# Altium footprint library BFCN-5540&plus_.PcbLib: 1 footprints
Each footprint in its own frame and in the unit in brackets; x right, y up, seen from the top. Pads: shape width x height; smd on the part's side, far side on the other; paste and mask are expansions set on the pad; w line width, h text height; cw(c..) or ccw(c..) is an arc to the next point about the centre after c.
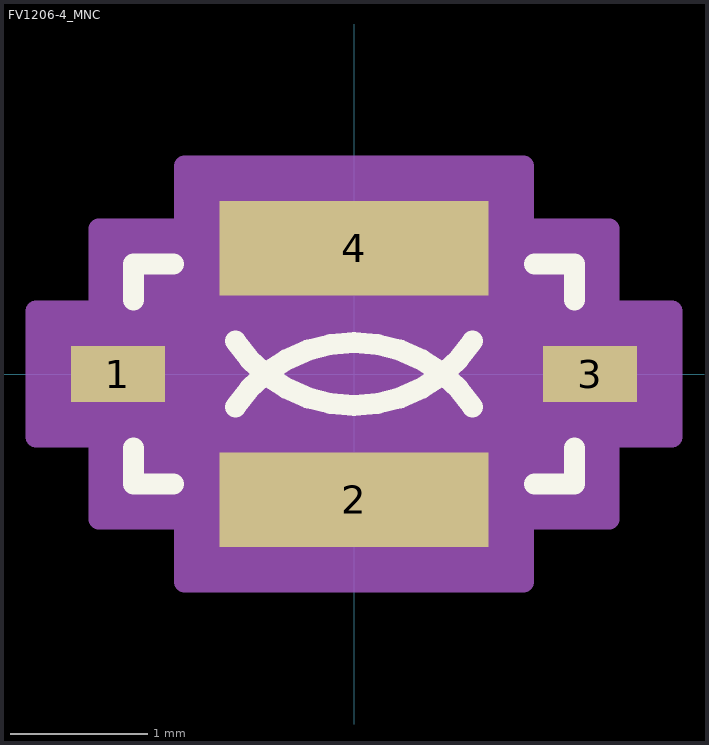
[diagram p0: the footprint, top view; thin cyan lines are the x and y axes]

## FV1206-4_MNC [mil]
pads (4):
  rect 27x16 smd paste+0 mask+0: 1(-67.5,0) 3(67.5,0)
  rect 77x27 smd paste+0 mask+0: 2(0,-36) 4(0,36)
Top Overlay:
  lines w6: -63,-21.1 -63,-31.5 -51.6,-31.5 ; -63,21.1 -63,31.5 -51.6,31.5 ; -33.94,-9.4 cw(c0,-31.5) 33.94,-9.4 ; -33.94,9.4 ccw(c0,31.5) 33.94,9.4 ; 51.6,-31.5 63,-31.5 63,-21.1 ; 51.6,31.5 63,31.5 63,21.1
Mechanical 13:
  lines w0: -63,-10 ccw(c-63,0) -63,10 ; -40.5,-31.5 cw(c0,-31.5) 40.5,-31.5 ; -40.5,31.5 ccw(c0,31.5) 40.5,31.5 ; 63,-10 cw(c63,0) 63,10
  lines w1: -63,-10 -63,-31.5 -40.5,-31.5 ; -63,10 -63,31.5 -40.5,31.5 ; -63,21.5 -53,31.5 ; 40.5,-31.5 63,-31.5 63,-10 ; 40.5,31.5 63,31.5 63,10
Mechanical 15:
  region: -48.5,-59.5 48.5,-59.5 48.5,-41.5 73,-41.5 73,-18 91,-18 91,18 73,18 73,41.5 48.5,41.5 48.5,59.5 -48.5,59.5 -48.5,41.5 -73,41.5 -73,18 -91,18 -91,-18 -73,-18 -73,-41.5 -48.5,-41.5
  lines w6: -91,-18 -91,18 -73,18 -73,41.5 -48.5,41.5 -48.5,59.5 48.5,59.5 48.5,41.5 73,41.5 73,18 91,18 91,-18 73,-18 73,-41.5 48.5,-41.5 48.5,-59.5 -48.5,-59.5 -48.5,-41.5 -73,-41.5 -73,-18 -91,-18